# Altium footprint library Pin-Headers.PcbLib: 20 footprints (part 1 of 2)
Each footprint in its own frame and in the unit in brackets; x right, y up, seen from the top. Pads: shape width x height; smd on the part's side, far side on the other; paste and mask are expansions set on the pad; w line width, h text height; cw(c..) or ccw(c..) is an arc to the next point about the centre after c.
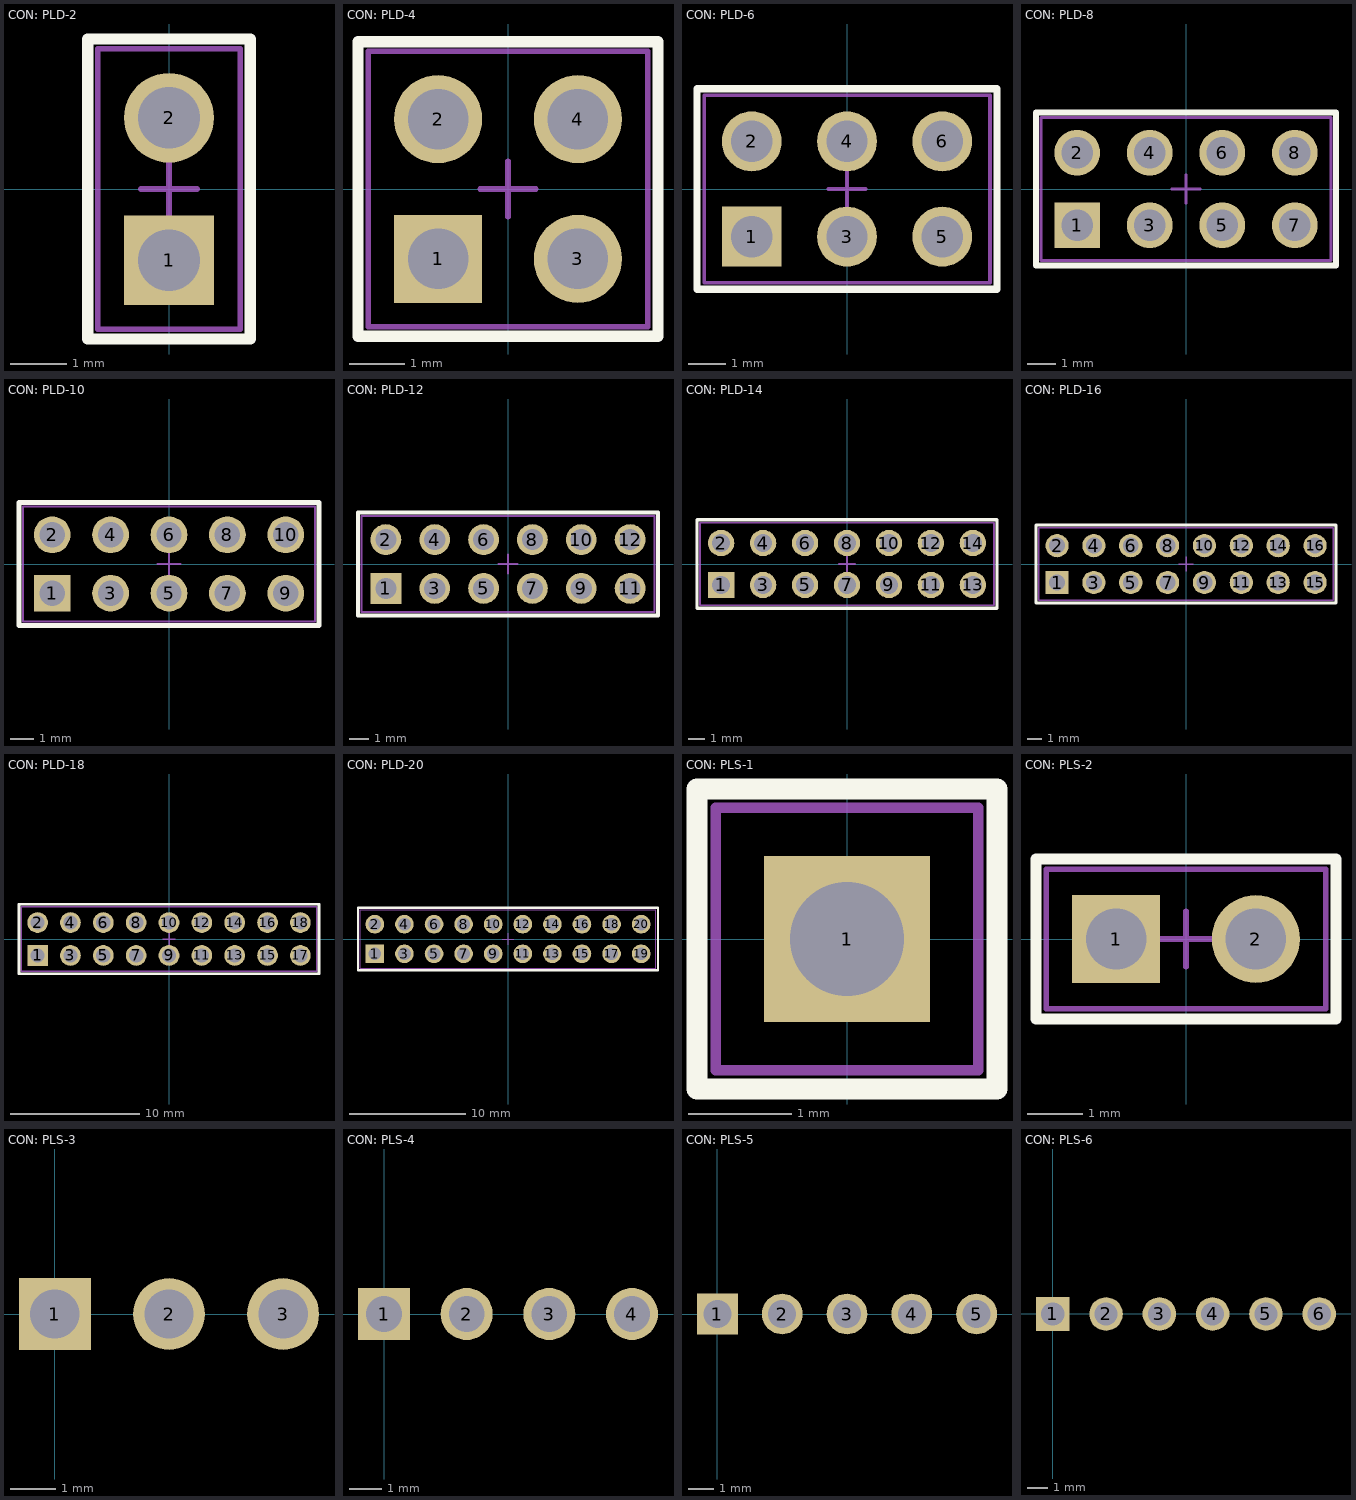
[diagram p0: the footprints below, top view; thin cyan lines are the x and y axes]

## CON: PLD-2 [mm]
pads (2):
  rect 1.6x1.6 hole 1.1: 1(0,-1.27)
  round 1.6 hole 1.1: 2(0,1.27)
Top Overlay:
  lines w0.2: -1.45,-2.675 1.45,-2.675 1.45,2.675 -1.45,2.675 -1.45,-2.675
Top Assy:
  lines w0.1: -1.27,-2.5 1.27,-2.5 1.27,2.5 -1.27,2.5 -1.27,-2.5
Border (Mech15):
  lines w0.1: -0.5,0 0.5,0 ; 0,-0.5 0,0.5 ; -1.45,-2.675 1.45,-2.675 1.45,2.675 -1.45,2.675 -1.45,-2.675
3D body "DS1021-2x1SF11.stp": height 8.6, standoff -3, extent -1.27,-2.5 1.27,2.5

## CON: PLD-4 [mm]
pads (4):
  rect 1.6x1.6 hole 1.1: 1(-1.27,-1.27)
  round 1.6 hole 1.1: 2(-1.27,1.27) 3(1.27,-1.27) 4(1.27,1.27)
Top Overlay:
  lines w0.2: -2.725,-2.675 2.725,-2.675 2.725,2.675 -2.725,2.675 -2.725,-2.675
Top Assy:
  lines w0.1: -2.54,-2.5 -2.54,2.5 2.54,2.5 2.54,-2.5 -2.54,-2.5
Border (Mech15):
  lines w0.1: -0.5,0 0.5,0 ; 0,-0.5 0,0.5 ; -2.725,-2.675 2.725,-2.675 2.725,2.675 -2.725,2.675 -2.725,-2.675
3D body "DS1021-2x2SF11.stp": height 8.6, standoff -3, extent -2.54,-2.5 2.54,2.5

## CON: PLD-6 [mm]
pads (6):
  rect 1.6x1.6 hole 1.1: 1(-2.54,-1.27)
  round 1.6 hole 1.1: 2(-2.54,1.27) 3(0,-1.27) 4(0,1.27) 5(2.54,-1.27) 6(2.54,1.27)
Top Overlay:
  lines w0.2: -4,-2.675 -4,2.675 4,2.675 4,-2.675 -4,-2.675
Top Assy:
  lines w0.1: -3.81,-2.5 3.81,-2.5 3.81,2.5 -3.81,2.5 -3.81,-2.5
Border (Mech15):
  lines w0.1: -0.5,0 0.5,0 ; 0,-0.5 0,0.5 ; -4,-2.675 -4,2.675 4,2.675 4,-2.675 -4,-2.675
3D body "DS1021-2x3SF11.stp": height 8.6, standoff -3, extent -3.81,-2.5 3.81,2.5

## CON: PLD-8 [mm]
pads (8):
  rect 1.6x1.6 hole 1.1: 1(-3.81,-1.27)
  round 1.6 hole 1.1: 2(-3.81,1.27) 3(-1.27,-1.27) 4(-1.27,1.27) 5(1.27,-1.27) 6(1.27,1.27) 7(3.81,-1.27) 8(3.81,1.27)
Top Overlay:
  lines w0.2: -5.25,-2.675 5.25,-2.675 5.25,2.675 -5.25,2.675 -5.25,-2.675
Top Assy:
  lines w0.1: -5.08,-2.5 -5.08,2.5 5.08,2.5 5.08,-2.5 -5.08,-2.5
Border (Mech15):
  lines w0.1: -0.5,0 0.5,0 ; 0,-0.5 0,0.5 ; -5.25,-2.675 5.25,-2.675 5.25,2.675 -5.25,2.675 -5.25,-2.675
3D body "DS1021-2x4SF11.stp": height 8.6, standoff -3, extent -5.08,-2.5 5.08,2.5

## CON: PLD-10 [mm]
pads (10):
  rect 1.6x1.6 hole 1.1: 1(-5.08,-1.27)
  round 1.6 hole 1.1: 2(-5.08,1.27) 3(-2.54,-1.27) 4(-2.54,1.27) 5(0,-1.27) 6(0,1.27) 7(2.54,-1.27) 8(2.54,1.27) 9(5.08,-1.27) 10(5.08,1.27)
Top Overlay:
  lines w0.2: -6.525,-2.675 -6.525,2.675 6.525,2.675 6.525,-2.675 -6.525,-2.675
3D Model:
  lines w0.1: -6.35,-2.5 -6.35,2.5 6.35,2.5 6.35,-2.5 -6.35,-2.5
Border (Mech15):
  lines w0.1: -0.5,0 0.5,0 ; 0,-0.5 0,0.5 ; -6.525,-2.675 6.525,-2.675 6.525,2.675 -6.525,2.675 -6.525,-2.675
3D body "DS1021-2x5SF11.stp": height 8.6, standoff -3, extent -6.35,-2.5 6.35,2.5

## CON: PLD-12 [mm]
pads (12):
  rect 1.6x1.6 hole 1.1: 1(-6.35,-1.27)
  round 1.6 hole 1.1: 2(-6.35,1.27) 3(-3.81,-1.27) 4(-3.81,1.27) 5(-1.27,-1.27) 6(-1.27,1.27) 7(1.27,-1.27) 8(1.27,1.27) 9(3.81,-1.27) 10(3.81,1.27) 11(6.35,-1.27) 12(6.35,1.27)
Top Overlay:
  lines w0.2: -7.8,-2.675 7.8,-2.675 7.8,2.675 -7.8,2.675 -7.8,-2.675
Top Assy:
  lines w0.1: -7.62,-2.5 -7.62,2.5 7.62,2.5 7.62,-2.5 -7.62,-2.5
Border (Mech15):
  lines w0.1: -0.5,0 0.5,0 ; 0,-0.5 0,0.5 ; -7.8,-2.675 -7.8,2.675 7.8,2.675 7.8,-2.675 -7.8,-2.675
3D body "DS1021-2x6SF11.stp": height 8.6, standoff -3, extent -7.62,-2.5 7.62,2.5

## CON: PLD-14 [mm]
pads (14):
  rect 1.6x1.6 hole 1.1: 1(-7.62,-1.27)
  round 1.6 hole 1.1: 2(-7.62,1.27) 3(-5.08,-1.27) 4(-5.08,1.27) 5(-2.54,-1.27) 6(-2.54,1.27) 7(0,-1.27) 8(0,1.27) 9(2.54,-1.27) 10(2.54,1.27) 11(5.08,-1.27) 12(5.08,1.27) 13(7.62,-1.27) 14(7.62,1.27)
Top Overlay:
  lines w0.2: -9.075,-2.675 9.075,-2.675 9.075,2.675 -9.075,2.675 -9.075,-2.675
Top Assy:
  lines w0.1: -8.89,-2.5 -8.89,2.5 8.89,2.5 8.89,-2.5 -8.89,-2.5
Border (Mech15):
  lines w0.1: -0.5,0 0.5,0 ; 0,-0.5 0,0.5 ; -9.075,-2.675 9.075,-2.675 9.075,2.675 -9.075,2.675 -9.075,-2.675
3D body "DS1021-2x7SF11.stp": height 8.6, standoff -3, extent -8.89,-2.5 8.89,2.5

## CON: PLD-16 [mm]
pads (16):
  rect 1.6x1.6 hole 1.1: 1(-8.89,-1.27)
  round 1.6 hole 1.1: 2(-8.89,1.27) 3(-6.35,-1.27) 4(-6.35,1.27) 5(-3.81,-1.27) 6(-3.81,1.27) 7(-1.27,-1.27) 8(-1.27,1.27) 9(1.27,-1.27) 10(1.27,1.27) 11(3.81,-1.27) 12(3.81,1.27) 13(6.35,-1.27) 14(6.35,1.27) 15(8.89,-1.27) 16(8.89,1.27)
Top Overlay:
  lines w0.2: -10.34,-2.67 -10.34,2.68 10.335,2.68 10.335,-2.67 -10.34,-2.67
Top Assy:
  lines w0.1: -10.16,-2.5 10.16,-2.5 10.16,2.5 -10.16,2.5 -10.16,-2.5
Border (Mech15):
  lines w0.1: -0.5,0 0.5,0 ; 0,-0.5 0,0.5 ; -10.34,-2.67 -10.34,2.68 10.335,2.68 10.335,-2.67 -10.34,-2.67
3D body "DS1021-2x8SF11.stp": height 8.6, standoff -3, extent -10.16,-2.5 10.16,2.5

## CON: PLD-18 [mm]
pads (18):
  rect 1.6x1.6 hole 1.1: 1(-10.16,-1.27)
  round 1.6 hole 1.1: 2(-10.16,1.27) 3(-7.62,-1.27) 4(-7.62,1.27) 5(-5.08,-1.27) 6(-5.08,1.27) 7(-2.54,-1.27) 8(-2.54,1.27) 9(0,-1.27) 10(0,1.27) 11(2.54,-1.27) 12(2.54,1.27) 13(5.08,-1.27) 14(5.08,1.27) 15(7.62,-1.27) 16(7.62,1.27) 17(10.16,-1.27) 18(10.16,1.27)
Top Overlay:
  lines w0.2: -11.6,-2.675 -11.6,2.675 11.6,2.675 11.6,-2.675 -11.6,-2.675
Top Assy:
  lines w0.1: -11.43,-2.5 11.43,-2.5 11.43,2.5 -11.43,2.5 -11.43,-2.5
Border (Mech15):
  lines w0.1: -0.5,0 0.5,0 ; 0,-0.5 0,0.5 ; -11.6,-2.675 11.6,-2.675 11.6,2.675 -11.6,2.675 -11.6,-2.675
3D body "DS1021-2x9SF11.stp": height 8.6, standoff -3, extent -11.43,-2.5 11.43,2.5

## CON: PLD-20 [mm]
pads (20):
  rect 1.6x1.6 hole 1.1: 1(-11.43,-1.27)
  round 1.6 hole 1.1: 2(-11.43,1.27) 3(-8.89,-1.27) 4(-8.89,1.27) 5(-6.35,-1.27) 6(-6.35,1.27) 7(-3.81,-1.27) 8(-3.81,1.27) 9(-1.27,-1.27) 10(-1.27,1.27) 11(1.27,-1.27) 12(1.27,1.27) 13(3.81,-1.27) 14(3.81,1.27) 15(6.35,-1.27) 16(6.35,1.27) 17(8.89,-1.27) 18(8.89,1.27) 19(11.43,-1.27) 20(11.43,1.27)
Top Overlay:
  lines w0.2: -12.875,-2.675 12.875,-2.675 12.875,2.675 -12.875,2.675 -12.875,-2.675
Top Assy:
  lines w0.1: -12.7,-2.5 -12.7,2.5 12.7,2.5 12.7,-2.5 -12.7,-2.5
Border (Mech15):
  lines w0.1: -0.5,0 0.5,0 ; 0,-0.5 0,0.5 ; -12.875,-2.675 -12.875,2.675 12.875,2.675 12.875,-2.675 -12.875,-2.675
3D body "DS1021-2x10SF11.stp": height 8.6, standoff -3, extent -12.7,-2.5 12.7,2.5

## CON: PLS-1 [mm]
pads (1):
  rect 1.6x1.6 hole 1.1: 1(0,0)
Top Overlay:
  lines w0.2: -1.45,-1.45 -1.45,1.45 1.45,1.45 1.45,-1.45 -1.45,-1.45
Top Assy:
  lines w0.1: -1.27,-1.27 -1.27,1.27 1.27,1.27 1.27,-1.27 -1.27,-1.27
Border (Mech15):
  lines w0.1: -0.5,0 0.5,0 ; 0,-0.5 0,0.5 ; -1.45,-1.45 -1.45,1.45 1.45,1.45 1.45,-1.45 -1.45,-1.45
3D body "DS1021-1x1SF11.stp": height 8.6, standoff -3, extent -1.27,-1.27 1.27,1.27

## CON: PLS-2 [mm]
pads (2):
  rect 1.6x1.6 hole 1.1: 1(-1.27,0)
  round 1.6 hole 1.1: 2(1.27,0)
Top Overlay:
  lines w0.2: -2.725,-1.45 2.725,-1.45 2.725,1.45 -2.725,1.45 -2.725,-1.45
3D Model:
  lines w0.1: -2.54,-1.27 2.54,-1.27 2.54,1.27 -2.54,1.27 -2.54,-1.27
Border (Mech15):
  lines w0.1: -0.5,0 0.5,0 ; 0,-0.5 0,0.5 ; -2.725,-1.45 2.725,-1.45 2.725,1.45 -2.725,1.45 -2.725,-1.45
3D body "DS1021-1x2SF11.stp": height 8.6, standoff -3, extent -2.54,-1.27 2.54,1.27

## CON: PLS-3 [mm]
pads (3):
  rect 1.6x1.6 hole 1.1: 1(0,0)
  round 1.6 hole 1.1: 2(2.54,0) 3(5.08,0)
3D body "DS1021-1x3SF11.stp": height 8.6, standoff -3, extent -1.27,-1.27 6.35,1.27

## CON: PLS-4 [mm]
pads (4):
  rect 1.6x1.6 hole 1.1: 1(0,0)
  round 1.6 hole 1.1: 2(2.54,0) 3(5.08,0) 4(7.62,0)
3D body "DS1021-1x4SF11.stp": height 8.6, standoff -3, extent -1.27,-1.27 8.89,1.27

## CON: PLS-5 [mm]
pads (5):
  rect 1.6x1.6 hole 1.1: 1(0,0)
  round 1.6 hole 1.1: 2(2.54,0) 3(5.08,0) 4(7.62,0) 5(10.16,0)
3D body "DS1021-1x5SF11.stp": height 8.6, standoff -3, extent -1.27,-1.27 11.43,1.27

## CON: PLS-6 [mm]
pads (6):
  rect 1.6x1.6 hole 1.1: 1(0,0)
  round 1.6 hole 1.1: 2(2.54,0) 3(5.08,0) 4(7.62,0) 5(10.16,0) 6(12.7,0)
3D body "DS1021-1x6SF11.stp": height 8.6, standoff -3, extent -1.27,-1.27 13.97,1.27